# Altium schematic symbol library BITK210.SchLib: 1 symbol
Pins are listed as number, name and electrical type; pins without a type are passive.

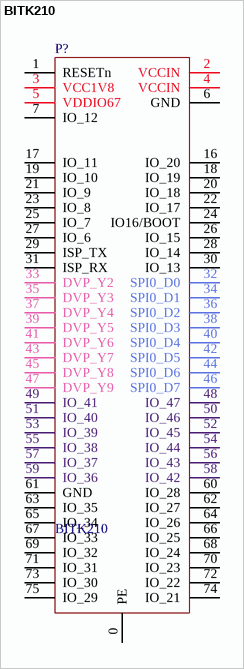
[diagram p0: symbol BITK210]

## BITK210
designator P?
footprint NGFF_M_2-AKEY-K210 (NGFF_M_2)
pins: 0 PE, 1 RESETn, 2 VCCIN, 3 VCC1V8, 4 VCCIN, 5 VDDIO67, 6 GND, 7 IO_12, 16 IO_20, 17 IO_11, 18 IO_19, 19 IO_10, 20 IO_18, 21 IO_9, 22 IO_17, 23 IO_8, 24 IO16/BOOT, 25 IO_7, 26 IO_15, 27 IO_6, 28 IO_14, 29 ISP_TX, 30 IO_13, 31 ISP_RX, 32 SPI0_D0, 33 DVP_Y2, 34 SPI0_D1, 35 DVP_Y3, 36 SPI0_D2, 37 DVP_Y4, 38 SPI0_D3, 39 DVP_Y5, 40 SPI0_D4, 41 DVP_Y6, 42 SPI0_D5, 43 DVP_Y7, 44 SPI0_D6, 45 DVP_Y8, 46 SPI0_D7, 47 DVP_Y9, 48 IO_47, 49 IO_41, 50 IO_46, 51 IO_40, 52 IO_45, 53 IO_39, 54 IO_44, 55 IO_38, 56 IO_43, 57 IO_37, 58 IO_42, 59 IO_36, 60 IO_28, 61 GND, 62 IO_27, 63 IO_35, 64 IO_26, 65 IO_34, 66 IO_25, 67 IO_33, 68 IO_24, 69 IO_32, 70 IO_23, 71 IO_31, 72 IO_22, 73 IO_30, 74 IO_21, 75 IO_29